# Altium footprint library Gelnar.PcbLib: 295 footprints (part 4 of 19)
Each footprint in its own frame and in the unit in brackets; x right, y up, seen from the top. Pads: shape width x height; smd on the part's side, far side on the other; paste and mask are expansions set on the pad; w line width, h text height; cw(c..) or ccw(c..) is an arc to the next point about the centre after c.
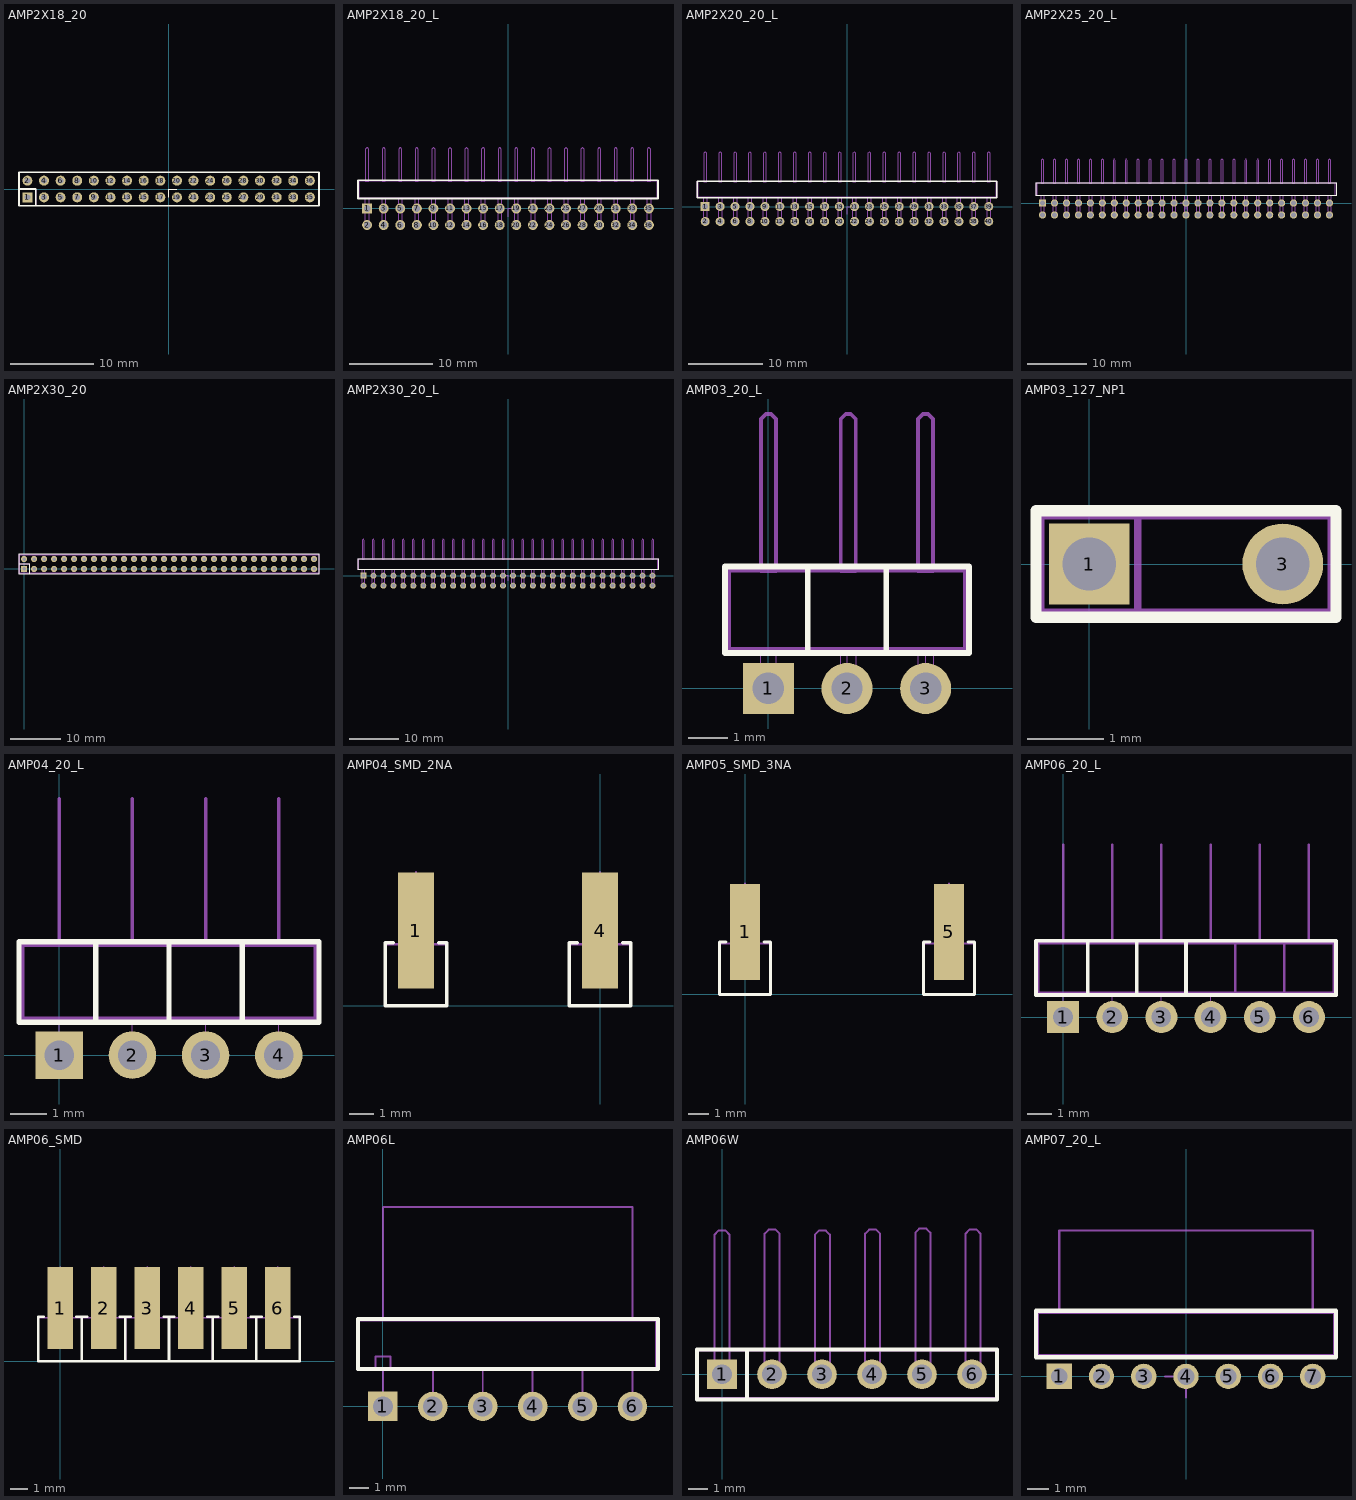
[diagram p3: the footprints below, top view; thin cyan lines are the x and y axes]

## AMP2X18_20 [mm]
pads (36):
  rect 1.2x1.2 hole 0.7 mask+0.05: 1(-17,-1)
  round 1.2 hole 0.7 mask+0.05: 2(-17,1) 3(-15,-1) 4(-15,1) 5(-13,-1) 6(-13,1) 7(-11,-1) 8(-11,1) 9(-9,-1) 10(-9,1) 11(-7,-1) 12(-7,1) 13(-5,-1) 14(-5,1) 15(-3,-1) 16(-3,1) 17(-1,-1) 18(-1,1) 19(1,-1) 20(1,1) 21(3,-1) 22(3,1) 23(5,-1) 24(5,1) 25(7,-1) 26(7,1) 27(9,-1) 28(9,1) 29(11,-1) 30(11,1) 31(13,-1) 32(13,1) 33(15,-1) 34(15,1) 35(17,-1) 36(17,1)
Top Overlay:
  lines w0.1: 0,-1 0,0 1,0
  lines w0.2: -18,0 -16,0 -16,-2 ; -18.01,-2.01 18.1,-2.01 18.1,2.01 -18.01,2.01 -18.01,-2.01
Mechanical 15:
  lines w0.1: -18,0 -16,0 -16,-2 ; -18,-2 18,-2 18,2 -18,2 -18,-2 ; -18,-2 -18,-2
Multi-Layer:
  text "Value" at -7.935,-0.225 h0.75
Mechanical 20:
  lines w0.1: -18,-2 18.05,-2 18.05,2 -18,2 -18,-2

## AMP2X18_20_L [mm]
pads (36):
  rect 1.2x1.2 hole 0.8 mask+0.05: 1(-17,0)
  round 1.2 hole 0.8 mask+0.05: 2(-17,-2) 3(-15,0) 4(-15,-2) 5(-13,0) 6(-13,-2) 7(-11,0) 8(-11,-2) 9(-9,0) 10(-9,-2) 11(-7,0) 12(-7,-2) 13(-5,0) 14(-5,-2) 15(-3,0) 16(-3,-2) 17(-1,0) 18(-1,-2) 19(1,0) 20(1,-2) 21(3,0) 22(3,-2) 23(5,0) 24(5,-2) 25(7,0) 26(7,-2) 27(9,0) 28(9,-2) 29(11,0) 30(11,-2) 31(13,0) 32(13,-2) 33(15,0) 34(15,-2) 35(17,0) 36(17,-2)
Top Overlay:
  lines w0.2: -18.1,1.2 18.1,1.2 18.1,3.4 -18.1,3.4 -18.1,1.2
Mechanical 15:
  drawing of 202 lines, arcs and shapes, not listed
Mechanical 19:
  lines w0.1: 0,-1 0,0 1,0
Mechanical 20:
  lines w0.1: -18.1,1.2 18.1,1.2 18.1,3.4 -18.1,3.4 -18.1,1.2

## AMP2X20_20_L [mm]
pads (40):
  rect 1.2x1.2 hole 0.8 mask+0.05: 1(-19,0)
  round 1.2 hole 0.8 mask+0.05: 2(-19,-2) 3(-17,0) 4(-17,-2) 5(-15,0) 6(-15,-2) 7(-13,0) 8(-13,-2) 9(-11,0) 10(-11,-2) 11(-9,0) 12(-9,-2) 13(-7,0) 14(-7,-2) 15(-5,0) 16(-5,-2) 17(-3,0) 18(-3,-2) 19(-1,0) 20(-1,-2) 21(1,0) 22(1,-2) 23(3,0) 24(3,-2) 25(5,0) 26(5,-2) 27(7,0) 28(7,-2) 29(9,0) 30(9,-2) 31(11,0) 32(11,-2) 33(13,0) 34(13,-2) 35(15,0) 36(15,-2) 37(17,0) 38(17,-2) 39(19,0) 40(19,-2)
Top Overlay:
  lines w0.2: -20.1,1.2 20.1,1.2 20.1,3.4 -20.1,3.4 -20.1,1.2
Mechanical 15:
  drawing of 224 lines, arcs and shapes, not listed
Mechanical 19:
  lines w0.1: 0,-1 0,0 1,0
Mechanical 20:
  lines w0.1: -20.1,1.2 20.1,1.2 20.1,3.4 -20.1,3.4 -20.1,1.2

## AMP2X25_20_L [mm]
pads (50):
  rect 1.2x1.2 hole 0.8 mask+0.05: 1(-24,0)
  round 1.2 hole 0.8 mask+0.05: 2(-24,-2) 3(-22,0) 4(-22,-2) 5(-20,0) 6(-20,-2) 7(-18,0) 8(-18,-2) 9(-16,0) 10(-16,-2) 11(-14,0) 12(-14,-2) 13(-12,0) 14(-12,-2) 15(-10,0) 16(-10,-2) 17(-8,0) 18(-8,-2) 19(-6,0) 20(-6,-2) 21(-4,0) 22(-4,-2) 23(-2,0) 24(-2,-2) 25(0,0) 26(0,-2) 27(2,0) 28(2,-2) 29(4,0) 30(4,-2) 31(6,0) 32(6,-2) 33(8,0) 34(8,-2) 35(10,0) 36(10,-2) 37(12,0) 38(12,-2) 39(14,0) 40(14,-2) 41(16,0) 42(16,-2) 43(18,0) 44(18,-2) 45(20,0) 46(20,-2) 47(22,0) 48(22,-2) 49(24,0) 50(24,-2)
Top Overlay:
  lines w0.2: -25.1,1.2 25.1,1.2 25.1,3.4 -25.1,3.4 -25.1,1.2
Mechanical 15:
  drawing of 279 lines, arcs and shapes, not listed
Mechanical 19:
  lines w0.1: -1,0 0,0 0,-1
Mechanical 20:
  lines w0.1: -25.1,1.2 25.1,1.2 25.1,3.4 -25.1,3.4 -25.1,1.2

## AMP2X30_20 [mm]
pads (60):
  rect 1.2x1.2 hole 0.7 mask+0.05: 1(0,0)
  round 1.2 hole 0.7 mask+0.05: 2(0,2) 3(2,0) 4(2,2) 5(4,0) 6(4,2) 7(6,0) 8(6,2) 9(8,0) 10(8,2) 11(10,0) 12(10,2) 13(12,0) 14(12,2) 15(14,0) 16(14,2) 17(16,0) 18(16,2) 19(18,0) 20(18,2) 21(20,0) 22(20,2) 23(22,0) 24(22,2) 25(24,0) 26(24,2) 27(26,0) 28(26,2) 29(28,0) 30(28,2) 31(30,0) 32(30,2) 33(32,0) 34(32,2) 35(34,0) 36(34,2) 37(36,0) 38(36,2) 39(38,0) 40(38,2) 41(40,0) 42(40,2) 43(42,0) 44(42,2) 45(44,0) 46(44,2) 47(46,0) 48(46,2) 49(48,0) 50(48,2) 51(50,0) 52(50,2) 53(52,0) 54(52,2) 55(54,0) 56(54,2) 57(56,0) 58(56,2) 59(58,0) 60(58,2)
Top Overlay:
  lines w0.2: -1,1 1,1 1,-1 ; -1.01,-1.01 59,-1.01 59,3.01 -1.01,3.01 -1.01,-1.01
Mechanical 15:
  lines w0.1: -1,1 1,1 1,-1 ; -1,-1 59,-1 59,3 -1,3 -1,-1 ; -1,-1 -1,-1
Multi-Layer:
  text "Value" at 9.065,0.775 h0.75
Mechanical 20:
  lines w0.1: -0.9,-0.9 58.9,-0.9 58.9,2.9 -0.9,2.9 -0.9,-0.9

## AMP2X30_20_L [mm]
pads (60):
  rect 1.2x1.2 hole 0.8 mask+0.05: 1(-29,0)
  round 1.2 hole 0.8 mask+0.05: 2(-29,-2) 3(-27,0) 4(-27,-2) 5(-25,0) 6(-25,-2) 7(-23,0) 8(-23,-2) 9(-21,0) 10(-21,-2) 11(-19,0) 12(-19,-2) 13(-17,0) 14(-17,-2) 15(-15,0) 16(-15,-2) 17(-13,0) 18(-13,-2) 19(-11,0) 20(-11,-2) 21(-9,0) 22(-9,-2) 23(-7,0) 24(-7,-2) 25(-5,0) 26(-5,-2) 27(-3,0) 28(-3,-2) 29(-1,0) 30(-1,-2) 31(1,0) 32(1,-2) 33(3,0) 34(3,-2) 35(5,0) 36(5,-2) 37(7,0) 38(7,-2) 39(9,0) 40(9,-2) 41(11,0) 42(11,-2) 43(13,0) 44(13,-2) 45(15,0) 46(15,-2) 47(17,0) 48(17,-2) 49(19,0) 50(19,-2) 51(21,0) 52(21,-2) 53(23,0) 54(23,-2) 55(25,0) 56(25,-2) 57(27,0) 58(27,-2) 59(29,0) 60(29,-2)
Top Overlay:
  lines w0.2: -30.1,1.2 30.1,1.2 30.1,3.4 -30.1,3.4 -30.1,1.2
Mechanical 15:
  drawing of 334 lines, arcs and shapes, not listed
Multi-Layer:
  text "Value" at 3.271,2.639 h0.75
Mechanical 19:
  lines w0.1: -1,0 0,0 0,-1
Mechanical 20:
  lines w0.1: -30.1,1.2 30.1,1.2 30.1,3.4 -30.1,3.4 -30.1,1.2

## AMP03_20_L [mm]
height 9.5
pads (3):
  rect 1.3x1.3 hole 0.8 mask+0.05: 1(0,0)
  round 1.3 hole 0.8 mask+0.05: 2(2,0) 3(4,0)
Top Overlay:
  lines w0.15: 1,0.9 1,3.1 ; 3,0.9 3,3.1 ; -1.1,0.9 5.1,0.9 5.1,3.1 -1.1,3.1 -1.1,0.9
Mechanical 15:
  lines w0.01: 2,0 2,1 ; 4,0 4,1 ; -0.191,0 0.191,0 0.191,1.016 -0.191,1.016 -0.191,0 ; 1.841,0 2.222,0 2.222,1.016 1.841,1.016 1.841,0 ; 3.81,0 4.191,0 4.191,1.016 3.81,1.016 3.81,0
  lines w0.1: 1,1 1,3 ; 3,1 3,3 ; -1,1 5,1 5,3 -1,3 -1,1 ; -0.191,2.984 -0.191,6.858 -0.064,6.985 0.064,6.985 0.191,6.858 0.191,2.984 -0.191,2.984 ; 1.841,2.984 1.841,6.858 1.968,6.985 2.095,6.985 2.222,6.858 2.222,2.984 1.841,2.984 ; 3.81,2.984 3.81,6.858 3.937,6.985 4.064,6.985 4.191,6.858 4.191,2.984 3.81,2.984
Multi-Layer:
  text "Value" at 1.865,-1.525 h0.75
Mechanical 20:
  lines w0.1: -1.1,0.9 5.1,0.9 5.1,3.1 -1.1,3.1 -1.1,0.9

## AMP03_127_NP1 [mm]
height 9.5
pads (2):
  rect 1.06x1.06 / inner round 1.06 / far side rect 1.06x1.06 hole 0.7 mask+0.05: 1(0,0)
  round 1.06 hole 0.7 mask+0.05: 3(2.54,0)
Top Overlay:
  lines w0.15: -0.699,-0.699 3.238,-0.699 3.238,0.699 -0.699,0.699 -0.699,-0.699
Mechanical 15:
  lines w0.1: 0.635,-0.635 0.635,0.635 ; -0.635,-0.635 3.175,-0.635 3.175,0.635 -0.635,0.635 -0.635,-0.635

## AMP04_20_L [mm]
height 9.5
pads (4):
  rect 1.3x1.3 hole 0.8 mask+0.05: 1(0,0)
  round 1.3 hole 0.8 mask+0.05: 2(2,0) 3(4,0) 4(6,0)
Top Overlay:
  lines w0.15: 1,0.9 1,3.1 ; 3,0.9 3,3.1 ; 5,0.9 5,3.1 ; -1.1,0.9 7.1,0.9 7.1,3.1 -1.1,3.1 -1.1,0.9
Mechanical 15:
  lines w0.01: 0,0 0,1 ; 2,0 2,1 ; 4,0 4,1 ; 6,-0.1 6,0.9
  lines w0.1: 0,3 0,7 ; 1,1 1,3 ; 2,3 2,7 ; 3,1 3,3 ; 4,3 4,7 ; 5,1 5,3 ; 6,3 6,7 ; -1,1 7,1 7,3 -1,3 -1,1
Multi-Layer:
  text "Value" at 1.865,-1.525 h0.75
Mechanical 20:
  lines w0.1: -1.1,0.9 7.1,0.9 7.1,3.1 -1.1,3.1 -1.1,0.9

## AMP04_SMD_2NA [mm]
pads (2):
  rect 1.5x4.8 smd mask+0.05: 1(-7.62,3.111) 4(0,3.111)
Top Overlay:
  lines w0.15: -8.572,2.603 -8.89,2.603 -8.89,0 -6.35,0 -6.35,2.603 -6.667,2.603 ; -0.953,2.603 -1.27,2.603 -1.27,0 1.27,0 1.27,2.603 0.953,2.603
Mechanical 15:
  lines w0.1: -7.62,1.27 -7.62,5.524 ; 0,1.27 0,5.524 ; -8.89,0 -6.35,0 -6.35,2.54 -8.89,2.54 -8.89,0 ; -1.27,0 1.27,0 1.27,2.54 -1.27,2.54 -1.27,0

## AMP05_SMD_3NA [mm]
pads (2):
  rect 1.5x4.8 smd mask+0.05: 1(0,3.111) 5(10.16,3.111)
Top Overlay:
  lines w0.15: -0.953,2.603 -1.27,2.603 -1.27,0 1.27,0 1.27,2.603 0.953,2.603 ; 9.207,2.603 8.89,2.603 8.89,0 11.43,0 11.43,2.603 11.112,2.603
Mechanical 15:
  lines w0.1: 0,1.27 0,5.524 ; 10.16,1.27 10.16,5.524 ; -1.27,0 1.27,0 1.27,2.54 -1.27,2.54 -1.27,0 ; 8.89,0 11.43,0 11.43,2.54 8.89,2.54 8.89,0
Multi-Layer:
  text "Value" at 2.62,2 h0.6

## AMP06_20_L [mm]
height 9.5
pads (6):
  rect 1.3x1.3 hole 0.8 mask+0.05: 1(0,0)
  round 1.3 hole 0.8 mask+0.05: 2(2,0) 3(4,0) 4(6,0) 5(8,0) 6(10,0)
Top Overlay:
  lines w0.15: 1,0.9 1,3.1 ; 3,0.9 3,3.1 ; 5,0.9 5,3.1 ; -1.1,0.9 11.1,0.9 11.1,3.1 -1.1,3.1 -1.1,0.9
Mechanical 15:
  lines w0.01: 0,0 0,1 ; 2,0 2,1 ; 4,0 4,1 ; 6,-0.1 6,0.9
  lines w0.1: 0,3 0,7 ; 1,1 1,3 ; 2,3 2,7 ; 3,1 3,3 ; 4,3 4,7 ; 5,1 5,3 ; 6,3 6,7 ; 7,1 7,3 ; 8,3 8,7 ; 9,1 9,3 ; 10,3 10,7 ; -1,1 11,1 11,3 -1,3 -1,1
Multi-Layer:
  text "Value" at 1.965,-1.525 h0.75
Mechanical 20:
  lines w0.1: -1.1,0.9 11.1,0.9 11.1,3.1 -1.1,3.1 -1.1,0.9

## AMP06_SMD [mm]
pads (6):
  rect 1.5x4.8 smd mask+0.05: 1(0,3.111) 2(2.54,3.111) 3(5.08,3.111) 4(7.62,3.111) 5(10.16,3.111) 6(12.7,3.111)
Top Overlay:
  lines w0.15: -0.953,2.603 -1.27,2.603 -1.27,0 1.27,0 ; 0.953,2.603 1.27,2.603 ; 1.587,2.603 1.27,2.603 ; 3.492,2.603 3.81,2.603 ; 4.127,2.603 3.81,2.603 ; 6.032,2.603 6.35,2.603 ; 6.667,2.603 6.35,2.603 ; 8.572,2.603 8.89,2.603 ; 9.207,2.603 8.89,2.603 ; 11.112,2.603 11.43,2.603 ; 11.747,2.603 11.43,2.603 ; 13.652,2.603 13.97,2.603 13.97,0 11.43,0 ; 1.27,0 1.27,2.603 ; 1.27,0 1.27,2.603 ; 1.27,0 3.81,0 ; 3.81,0 3.81,2.603 ; 3.81,0 3.81,2.603 ; 3.81,0 6.35,0 ; 6.35,0 6.35,2.603 ; 6.35,0 6.35,2.603 ; 6.35,0 8.89,0 ; 8.89,0 8.89,2.603 ; 8.89,0 8.89,2.603 ; 8.89,0 11.43,0 ; 11.43,0 11.43,2.603 ; 11.43,0 11.43,2.603
Mechanical 15:
  lines w0.1: 0,1.27 0,5.524 ; 2.54,1.27 2.54,5.524 ; 5.08,1.27 5.08,5.524 ; 7.62,1.27 7.62,5.524 ; 10.16,1.27 10.16,5.524 ; 12.7,1.27 12.7,5.524 ; 1.27,0 1.27,2.54 ; 1.27,0 -1.27,0 -1.27,2.54 1.27,2.54 ; 1.27,0 3.81,0 ; 1.27,0 1.27,2.54 ; 1.27,2.54 3.81,2.54 ; 3.81,0 3.81,2.54 ; 3.81,0 6.35,0 ; 3.81,0 3.81,2.54 ; 3.81,2.54 6.35,2.54 ; 6.35,0 6.35,2.54 ; 6.35,0 8.89,0 ; 6.35,0 6.35,2.54 ; 6.35,2.54 8.89,2.54 ; 8.89,0 8.89,2.54 ; 8.89,0 11.43,0 ; 8.89,0 8.89,2.54 ; 8.89,2.54 11.43,2.54 ; 11.43,0 11.43,2.54 ; 11.43,0 13.97,0 13.97,2.54 11.43,2.54 ; 11.43,0 11.43,2.54

## AMP06L [mm]
height 9.5
pads (6):
  rect 1.5x1.5 hole 1 mask+0.05: 1(0,0)
  round 1.5 hole 1 mask+0.05: 2(2.54,0) 3(5.08,0) 4(7.62,0) 5(10.16,0) 6(12.7,0)
Top Overlay:
  lines w0.2: -1.27,1.905 14,1.905 14,4.445 -1.27,4.445 -1.27,1.905
Mechanical 15:
  lines w0.1: -0.381,1.905 -0.381,2.54 0.381,2.54 0.381,1.905 ; 0,0 0,1.905 ; 2.54,0 2.54,1.905 ; 5.08,0 5.08,1.905 ; 7.62,0 7.62,1.905 ; 10.16,0 10.16,1.905 ; 12.7,0 12.7,1.905 ; -1.27,1.905 13.98,1.905 13.98,4.445 -1.27,4.445 -1.27,1.905 ; 0,4.445 12.7,4.445 12.7,10.16 0,10.16 0,4.445
Multi-Layer:
  text "Value" at 2.286,2.095 h0.75
Mechanical 20:
  lines w0.1: -1.206,1.968 13.9,1.968 13.9,4.381 -1.206,4.381 -1.206,1.968

## AMP06W [mm]
height 9.5
pads (6):
  rect 1.5x1.5 hole 1 mask+0.05: 1(0,0)
  round 1.5 hole 1 mask+0.05: 2(2.54,0) 3(5.08,0) 4(7.62,0) 5(10.16,0) 6(12.7,0)
Top Overlay:
  lines w0.2: 1.27,-1.27 1.27,1.27 ; -1.27,-1.27 13.97,-1.27 13.97,1.27 -1.27,1.27 -1.27,-1.27
Mechanical 15:
  lines w0.1: 1.27,-1.27 1.27,1.27 ; -1.27,-1.27 13.97,-1.27 13.97,1.27 -1.27,1.27 -1.27,-1.27 ; -0.381,0 0.381,0 0.381,7.103 0.181,7.302 -0.181,7.302 -0.381,7.103 -0.381,0 ; 2.169,0.05 2.931,0.05 2.931,7.153 2.731,7.352 2.369,7.352 2.169,7.153 2.169,0.05 ; 4.719,0 5.481,0 5.481,7.103 5.281,7.302 4.919,7.302 4.719,7.103 4.719,0 ; 7.269,0.05 8.031,0.05 8.031,7.153 7.831,7.352 7.469,7.352 7.269,7.153 7.269,0.05 ; 9.819,0.1 10.581,0.1 10.581,7.203 10.381,7.402 10.019,7.402 9.819,7.203 9.819,0.1 ; 12.369,0.05 13.131,0.05 13.131,7.153 12.931,7.352 12.569,7.352 12.369,7.153 12.369,0.05
Mechanical 20:
  lines w0.1: -1.206,-1.206 13.906,-1.206 13.906,1.206 -1.206,1.206 -1.206,-1.206

## AMP07_20_L [mm]
pads (7):
  rect 1.2x1.2 hole 0.8 mask+0.05: 1(-6,0)
  round 1.2 hole 0.8 mask+0.05: 2(-4,0) 3(-2,0) 4(0,0) 5(2,0) 6(4,0) 7(6,0)
Top Overlay:
  lines w0.2: -7.1,0.9 7.1,0.9 7.1,3.1 -7.1,3.1 -7.1,0.9
Mechanical 15:
  lines w0.1: -6,3 -6,6.9 6,6.9 6,3 ; -7,1 7,1 7,3 -7,3 -7,1
Mechanical 19:
  lines w0.1: -1,0 0,0 0,-1
Mechanical 20:
  lines w0.1: -7.1,0.9 7.1,0.9 7.1,3.1 -7.1,3.1 -7.1,0.9